# EAGLE library part ADIS1647X (library ADI_iSensor_Libraries)
ADIS1647x - Miniature MEMS Inertial Measurement Unit (IMU) The ADIS16470 is a miniature MEMS inertial measurement unit (IMU) that includes a triaxial gyroscope and a triaxial accelerometer. Each inertial sensor in the ADIS16470 combines with signal conditioning that optimizes dynamic performance. The factory calibration characterizes each sensor for sensitivity, bias, alignment, linear acceleration (gyroscope bias), and point of percussion (accelerometer location). As a result, each sensor has dynamic compensation formulas that provide accurate sensor measurements over a broad set of conditions. The ADIS16470 provides a simple, cost effective method for integrating accurate, multiaxis inertial sensing into industrial systems, especially when compared with the complexity and investment associated with discrete designs. All necessary motion testing and calibration are part of the production process at the factory, greatly reducing system integration time. Tight orthogonal alignment simplifies inertial frame alignment in navigation systems. The serial peripheral interface (SPI) and register structure provide a simple interface for data collection and configuration control. The ADIS16470 is in a 44-ball, ball grid array (BGA) package that is approximately 11 mm × 15 mm × 11 mm. You are welcome to use this library for commercial purposes. For attribution, I ask that you reach out by sending me a link to the product being sold. My e-mail address is: juan@highcurrent.io
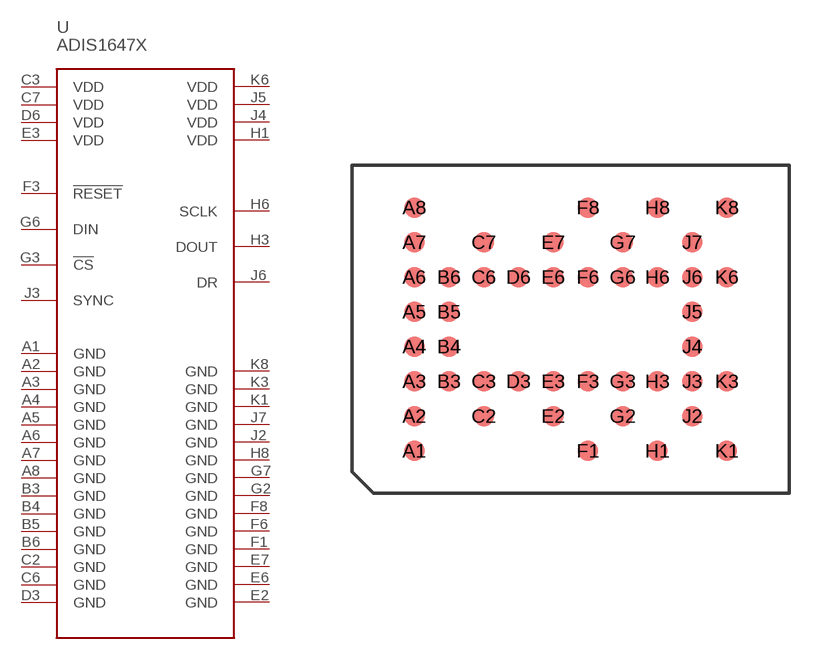
[diagram p3: symbol with the pads of ADIS1647X; footprint ADIS1647X]

Designator prefix U

## ADIS1647X  [ADIS1647X]
A1  GND
A2  GND
A3  GND
A4  GND
A5  GND
A6  GND
A7  GND
A8  GND
B3  GND
B4  GND
B5  GND
B6  GND
C2  GND
C3  VDD
C6  GND
C7  VDD
D3  GND
D6  VDD
E2  GND
E3  VDD
E6  GND
E7  GND
F1  GND
F3  !RESET
F6  GND
F8  GND
G2  GND
G3  !CS
G6  DIN
G7  GND
H1  VDD
H3  DOUT
H6  SCLK
H8  GND
J2  GND
J3  SYNC
J4  VDD
J5  VDD
J6  DR
J7  GND
K1  GND
K3  GND
K6  VDD
K8  GND

## Footprint ADIS1647X (pad centres in mm)
smd 0.75 x 0.75: A1 1.785,1.055; A2 1.785,2.325; A3 1.785,3.595; A4 1.785,4.865; A5 1.785,6.135; A6 1.785,7.405; A7 1.785,8.675; A8 1.785,9.945; B3 3.055,3.595; B4 3.055,4.865; B5 3.055,6.135; B6 3.055,7.405; C2 4.325,2.325; C3 4.325,3.595; C6 4.325,7.405; C7 4.325,8.675; D3 5.595,3.595; D6 5.595,7.405; E2 6.865,2.325; E3 6.865,3.595; E6 6.865,7.405; E7 6.865,8.675; F1 8.135,1.055; F3 8.135,3.595; F6 8.135,7.405; F8 8.135,9.945; G2 9.405,2.325; G3 9.405,3.595; G6 9.405,7.405; G7 9.405,8.675; H1 10.675,1.055; H3 10.675,3.595; H6 10.675,7.405; H8 10.675,9.945; J2 11.945,2.325; J3 11.945,3.595; J4 11.945,4.865; J5 11.945,6.135; J6 11.945,7.405; J7 11.945,8.675; K1 13.215,1.055; K3 13.215,3.595; K6 13.215,7.405; K8 13.215,9.945